# Altium footprint library HZ ChMic4501_1013.PcbLib: 52 footprints (part 4 of 4)
Each footprint in its own frame and in the unit in brackets; x right, y up, seen from the top. Pads: shape width x height; smd on the part's side, far side on the other; paste and mask are expansions set on the pad; w line width, h text height; cw(c..) or ccw(c..) is an arc to the next point about the centre after c.
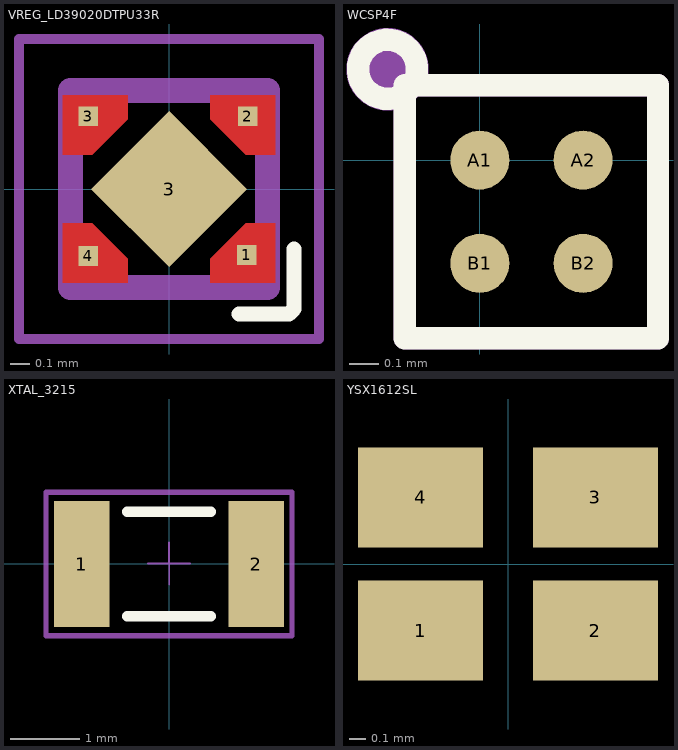
[diagram p3: the footprints below, top view; thin cyan lines are the x and y axes]

## VREG_LD39020DTPU33R [mm]
pads (5):
  rect 0.1x0.1 smd paste-1 mask+0: 1(0.395,-0.335) 2(0.4,0.37) 3(-0.41,0.37) 4(-0.41,-0.34)
  rect 0.56x0.56 smd rot 45 mask+0: 3(0,0)
Top Layer:
  region: -0.21,-0.355 -0.21,-0.475 -0.54,-0.475 -0.54,-0.175 -0.39,-0.175
  region: 0.54,0.175 0.39,0.175 0.21,0.355 0.21,0.475 0.54,0.475
  region: 0.54,-0.475 0.21,-0.475 0.21,-0.355 0.39,-0.175 0.54,-0.175
  region: -0.21,0.355 -0.39,0.175 -0.54,0.175 -0.54,0.475 -0.21,0.475
Top Overlay:
  lines w0.076: 0.356,-0.635 0.61,-0.635 0.635,-0.61 0.635,-0.305
Top Paste:
  region: -0.21,-0.355 -0.21,-0.475 -0.54,-0.475 -0.54,-0.175 -0.39,-0.175
  region: 0.54,0.175 0.39,0.175 0.21,0.355 0.21,0.475 0.54,0.475
  region: 0.54,-0.475 0.21,-0.475 0.21,-0.355 0.39,-0.175 0.54,-0.175
  region: -0.21,0.355 -0.39,0.175 -0.54,0.175 -0.54,0.475 -0.21,0.475
Top Solder:
  region: -0.17,0.35 -0.38,0.14 -0.57,0.14 -0.57,0.5 -0.17,0.5
  region: 0.43,0 0,-0.43 -0.43,0 0,0.43
  region: 0.57,0.14 0.38,0.14 0.17,0.35 0.17,0.5 0.57,0.5
  region: 0.57,-0.5 0.17,-0.5 0.17,-0.35 0.38,-0.14 0.57,-0.14
  region: -0.17,-0.35 -0.17,-0.5 -0.57,-0.5 -0.57,-0.14 -0.38,-0.14
Mechanical 7:
  lines w0.025: -0.307,0 -0.002,0 ; -0.002,0.305 -0.002,0 ; 0,-0.303 0,0.002 ; 0.303,0 -0.002,0
Mechanical 13:
  lines w0.127: -0.5,-0.5 0.5,-0.5 0.5,0.5 -0.5,0.5 -0.5,-0.5
Mechanical 15:
  lines w0.05: -0.762,-0.762 0.762,-0.762 0.762,0.762 -0.762,0.762 -0.762,-0.762

## WCSP4F [mm]
pads (4):
  round 0.2 smd mask+0.051: A1(0,0) A2(0.35,0) B1(0,-0.35) B2(0.35,-0.35)
Top Overlay:
  lines w0.076: -0.254,-0.604 -0.254,0.254 0.604,0.254 0.604,-0.604 -0.254,-0.604 ; -0.245,0.234 ccw(c-0.313,0.308) -0.245,0.234
Top Mechanical 20/Mechanical 21 (Mech20):
  circle w0.254: c-0.313,0.308 r0.012
  lines w0.076: -0.254,-0.604 0.604,-0.604 0.604,0.254 -0.229,0.254 -0.229,0.252 -0.254,0.227 -0.254,-0.604
3D body "WCSP4F.STEP": height 0.33, standoff 0, extent -0.145,-0.5 0.5,0.145

## XTAL_3215 [mm]
pads (2):
  rect 0.8x1.8 smd: 1(-1.254,-0.006) 2(1.246,-0.006)
Top Overlay:
  lines w0.15: -0.604,-0.756 0.596,-0.756 ; -0.604,0.744 0.596,0.744
Mechanical 7:
  lines w0.025: -0.307,0 -0.002,0 ; -0.002,0.305 -0.002,0 ; 0,-0.303 0,0.002 ; 0.303,0 -0.002,0
Top Mechanical 20/Mechanical 21 (Mech20):
  lines w0.076: -1.767,-1.035 -1.767,1.024 -0.604,1.024 1.76,1.024 1.76,-1.035 0.596,-1.035 -1.767,-1.035
3D body "User Library-NDK_NX3215SA.sldprt": height 0.8, standoff 0, extent -1.6,-0.75 1.6,0.75

## YSX1612SL [mm]
pads (4):
  rect 0.75x0.6 smd mask+0.051: 1(-0.525,-0.4) 2(0.525,-0.4) 3(0.525,0.4) 4(-0.525,0.4)
3D body "CRYSTAL_1612.step": height 0.35, standoff 0.03, extent -0.802,-0.602 0.802,0.602